# EAGLE library part TB6559FG (library PP_PowerIC)
Manufacturer Part #: TB6559FG Manufacturer: Toshiba Description: Motor / Motion / Ignition Controllers & Drivers Full-Bridge DC 50V 2.5A 1.3Ohm Motor IC
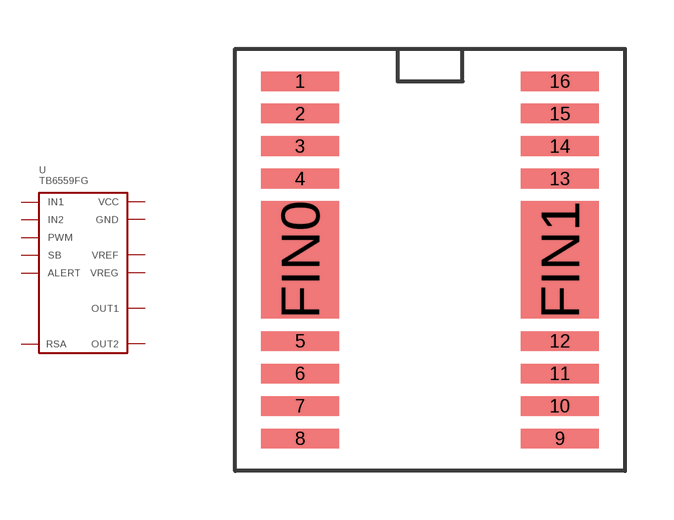
[diagram p1: symbol with the pads of TB6559FG_HSOP-16; footprint TB6559FG_HSOP-16]

Designator prefix U

## TB6559FG  [TB6559FG_HSOP-16]
1  IN1
2  SB
3  VREF
4  GND
5  VCC
7  OUT1
8  RSA
9  OUT2
10  GND
11  ALERT
12  GND
13  GND
14  PWM
15  VREG
16  IN2
FIN0  GND
FIN1  GND

## Footprint TB6559FG_HSOP-16 (pad centres in mm)
smd 2.4 x 0.6: 1 -4,4.27; 2 -4,3.27; 3 -4,2.27; 4 -4,1.27; 5 -4,-3.73; 6 -4,-4.73; 7 -4,-5.73; 8 -4,-6.73; 9 4,-6.73; 10 4,-5.73; 11 4,-4.73; 12 4,-3.73; 13 4,1.27; 14 4,2.27; 15 4,3.27; 16 4,4.27
smd 2.4 x 3.6: FIN0 -4,-1.23; FIN1 4,-1.23